# Altium footprint library PCB - POWER MODULE - MEANWELL IRM-10.PCBLIB: 1 footprints
Each footprint in its own frame and in the unit in brackets; x right, y up, seen from the top. Pads: shape width x height; smd on the part's side, far side on the other; paste and mask are expansions set on the pad; w line width, h text height; cw(c..) or ccw(c..) is an arc to the next point about the centre after c.
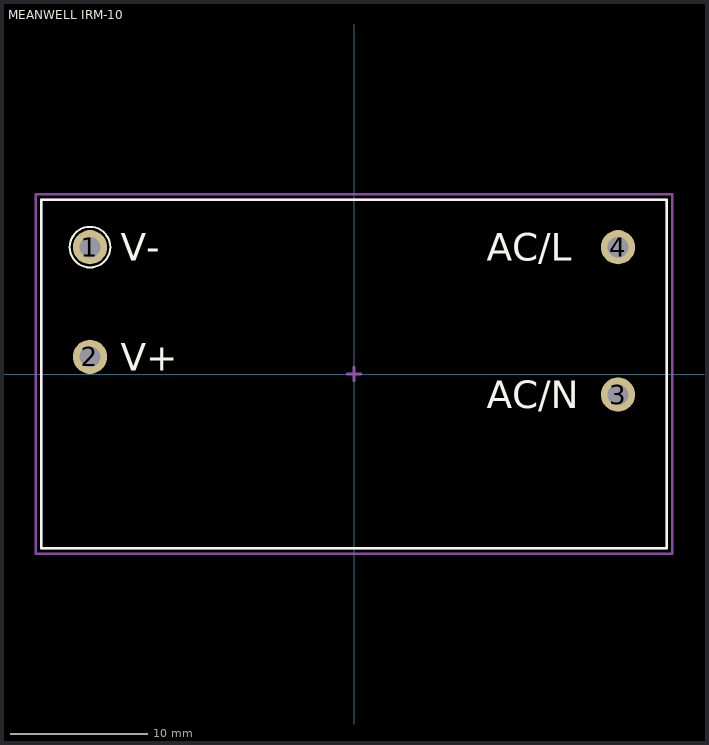
[diagram p0: the footprint, top view; thin cyan lines are the x and y axes]

## MEANWELL IRM-10 [mm] "10W AC-DC PCB-Mount Green Power Module"
height 21.5
pads (4):
  round 2.5 hole 1.5 paste-2539.97: 1(-19.25,9.25) 2(-19.25,1.25) 3(19.25,-1.5) 4(19.25,9.25)
Top Overlay:
  circle w0.15: c-19.25,9.25 r1.482
  lines w0.2: -22.8,-12.7 22.8,-12.7 22.8,12.7 -22.8,12.7 -22.8,-12.7
  text "AC/N" at 9.665,-2.5 h2
  text "AC/L" at 9.665,8.25 h2
  text "V+" at -16.996,0.25 h2
  text "V-" at -16.996,8.25 h2
Top Component Center:
  lines w0.2: -0.5,0 0.5,0 ; 0,-0.5 0,0.5
Top Component Outline:
  lines w0.2: -22.8,-12.7 22.8,-12.7 22.8,12.7 -22.8,12.7 -22.8,-12.7
Top Courtyard (Mech15):
  lines w0.2: -23.2,-13.1 23.2,-13.1 23.2,13.1 -23.2,13.1 -23.2,-13.1
3D body "MeanWell IRM-10.step": height 21.52, standoff -3.48, extent -22.85,-12.7 22.85,12.7